# Altium schematic symbol library CherryMX.SchLib: 4 symbols
Pins are listed as number, name and electrical type; pins without a type are passive.

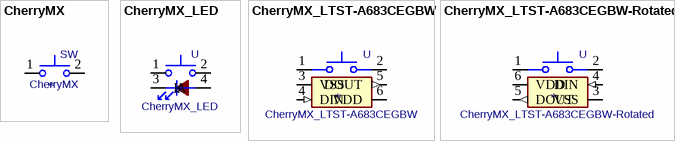
[diagram p0: symbols CherryMX to CherryMX_LTST-A683CEGBW-Rotated]

## CherryMX
designator SW  value CherryMX
pins: 1, 2

## CherryMX_LED
designator U  value CherryMX_LED
pins: 1, 2, 3 K, 4 A

## CherryMX_LTST-A683CEGBW
designator U  value CherryMX_LTST-A683CEGBW
pins: 1, 2, 3 VSS (power), 4 DIN (in), 5 DOUT (out), 6 VDD (power)

## CherryMX_LTST-A683CEGBW-Rotated
designator U  value CherryMX_LTST-A683CEGBW-Rotated
pins: 1, 2, 3 VSS (power), 4 DIN (in), 5 DOUT (out), 6 VDD (power)